# EAGLE library part TBP01R2-508-06BE (library TBP01R2-508-06BE)
6 Position Terminal Block Header, Male Pins, Shrouded (4 Side) 0.200" (5.08mm) Vertical Through Hole Source: Datasheet <https://www.sameskydevices.com/product/resource/tbp01r2-508.pdf>
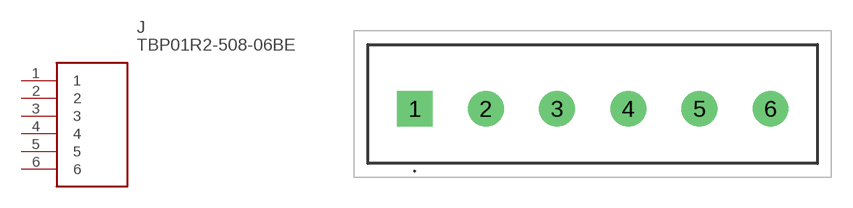
[diagram p0: symbol with the pads of TBP01R250806BE; footprint TBP01R250806BE]

Designator prefix J

## TBP01R2-508-06BE (Description: 6 Position Terminal Block Header, Male Pins, Shrouded (4 Side) 0.200" (5.08mm) Vertical Through Hole; Height: 12.4mm; Manufacturer_Name: Same Sky; Manufacturer_Part_Number: TBP01R2-508-06BE; Mouser_Part_Number: 490-TBP01R2-508-06BE; Mouser_Price-Stock: https://www.mouser.co.uk/ProductDetail/CUI-Devices/TBP01R2-508-06BE?qs=PzGy0jfpSMsphIICa8uwtQ%3D%3D)  [TBP01R250806BE]
1  1
2  2
3  3
4  4
5  5
6  6

## Footprint TBP01R250806BE (pad centres in mm)
TBP01R2-508-06BE-2
drill 1.7 pad 2.55 square: 1 0,0
drill 1.7 pad 2.55: 2 5.08,0; 3 10.16,0; 4 15.24,0; 5 20.32,0; 6 25.4,0